# Altium schematic symbol library Schlib2.SchLib: 4 symbols
Pins are listed as number, name and electrical type; pins without a type are passive.

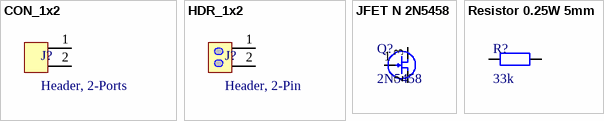
[diagram p0: symbols CON_1x2 to Resistor 0.25W 5mm]

## CON_1x2
designator J?, comment Header, 2-Ports
Connector, 2-Ports
footprint HDR_1X2_TE (282836-2)
pins: 1, 2

## HDR_1x2
designator J?, comment Header, 2-Pin
footprint HDR_1x2_pin
pins: 1, 2

## JFET N 2N5458
designator Q?, comment 2N5458
footprint 2N5458 (Jfet)
pins: 1, 2 S, 3 D

## Resistor 0.25W 5mm
designator R?, comment 33k
0.25W,Axial
footprint Resistor (Res_2mm_AxialTH)
pins: 1, 2